# Altium schematic symbol library AD9116BCPZ.SchLib: 2 symbols
Pins are listed as number, name and electrical type; pins without a type are passive.

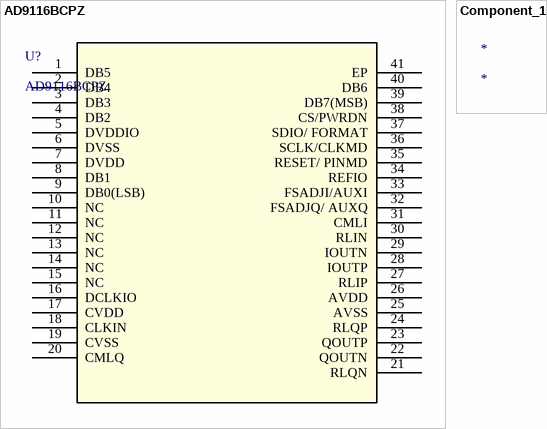
[diagram p0: symbols AD9116BCPZ to Component_1]

## AD9116BCPZ
designator U?
No Description Available; Mfr_Name: Analog Devices Inc; Copyright: Copyright (C) 2022 Ultra Librarian. All rights reserved.; Manufacturer_Part_Number: AD9116BCPZ; RefDes: RefDes; Type: DEV
footprint CP_40_1_ADI
pins: 1 DB5, 2 DB4, 3 DB3, 4 DB2, 5 DVDDIO (power), 6 DVSS (power), 7 DVDD (power), 8 DB1, 9 DB0(LSB), 10 NC, 11 NC, 12 NC, 13 NC, 14 NC, 15 NC, 16 DCLKIO, 17 CVDD (power), 18 CLKIN, 19 CVSS (power), 20 CMLQ, 21 RLQN, 22 QOUTN, 23 QOUTP, 24 RLQP, 25 AVSS, 26 AVDD (power), 27 RLIP, 28 IOUTP, 29 IOUTN, 30 RLIN, 31 CMLI, 32 FSADJQ/ AUXQ, 33 FSADJI/AUXI, 34 REFIO, 35 RESET/ PINMD, 36 SCLK/CLKMD, 37 SDIO/ FORMAT, 38 CS/PWRDN, 39 DB7(MSB), 40 DB6, 41 EP (power)

## Component_1
designator *